# EAGLE library part MB15EXXSL (library custom)
RF PLL IC 2.5GHz SPI
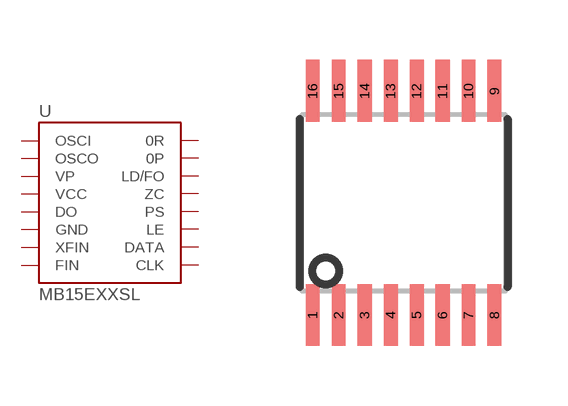
[diagram p61: symbol with the pads of 16-SSOP; footprint 16-SSOP]

Designator prefix U

## MB15EXXSL  [16-SSOP]
1  OSCI
2  OSCO
3  VP
4  VCC
5  DO
6  GND
7  XFIN
8  FIN
9  CLK
10  DATA
11  LE
12  PS
13  ZC
14  LD/FO
15  0P
16  0R

## Footprint 16-SSOP (pad centres in mm)
smd 0.35 x 1.55: 1 -2.275,-2.8; 2 -1.625,-2.8; 3 -0.975,-2.8; 4 -0.325,-2.8; 5 0.325,-2.8; 6 0.975,-2.8; 7 1.625,-2.8; 8 2.275,-2.8; 9 2.275,2.8; 10 1.625,2.8; 11 0.975,2.8; 12 0.325,2.8; 13 -0.325,2.8; 14 -0.975,2.8; 15 -1.625,2.8; 16 -2.275,2.8